# Altium footprint library Ind_TDK_MLG0603PR11JT000_110nH.PcbLib: 1 footprints
Each footprint in its own frame and in the unit in brackets; x right, y up, seen from the top. Pads: shape width x height; smd on the part's side, far side on the other; paste and mask are expansions set on the pad; w line width, h text height; cw(c..) or ccw(c..) is an arc to the next point about the centre after c.
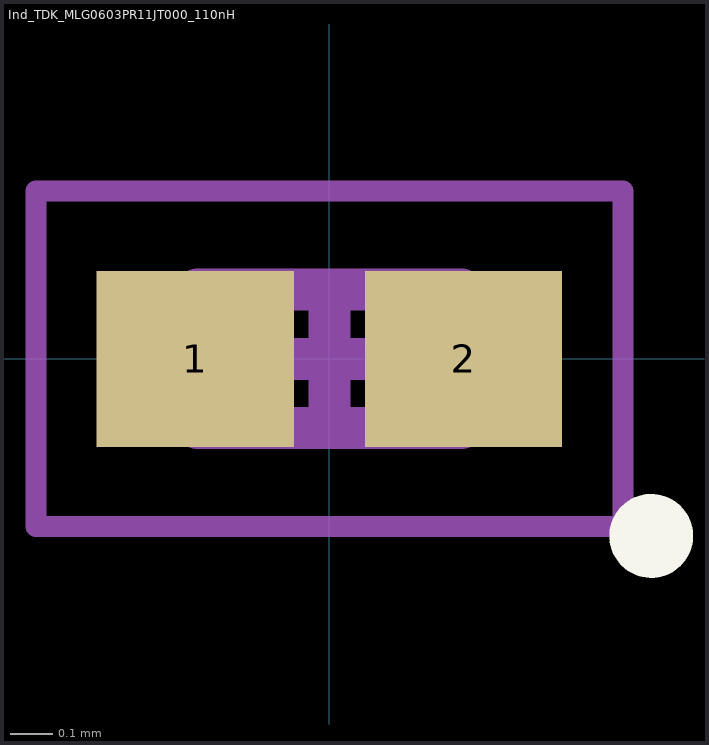
[diagram p0: the footprint, top view; thin cyan lines are the x and y axes]

## Ind_TDK_MLG0603PR11JT000_110nH [mm]
height 0.33
pads (2):
  rect 0.47x0.42 smd: 1(-0.32,0) 2(0.32,0)
Top Overlay:
  circle w0.1: c0.767,-0.422 r0.05
Mechanical 13:
  lines w0.1: -0.315,-0.165 -0.315,0.165 0.315,0.165 0.315,-0.165 -0.315,-0.165
Mechanical 15:
  lines w0.05: -0.7,-0.4 -0.7,0.4 0.7,0.4 0.7,-0.4 -0.7,-0.4
  lines w0.1: -0.165,0 0.165,0 ; 0,-0.165 0,0.165
3D body "Chip2PinSM127P600-8N.step": height 0.33, standoff 0, extent -0.315,-0.165 0.315,0.165